# EAGLE library part MAX232 (library ArdDisp)
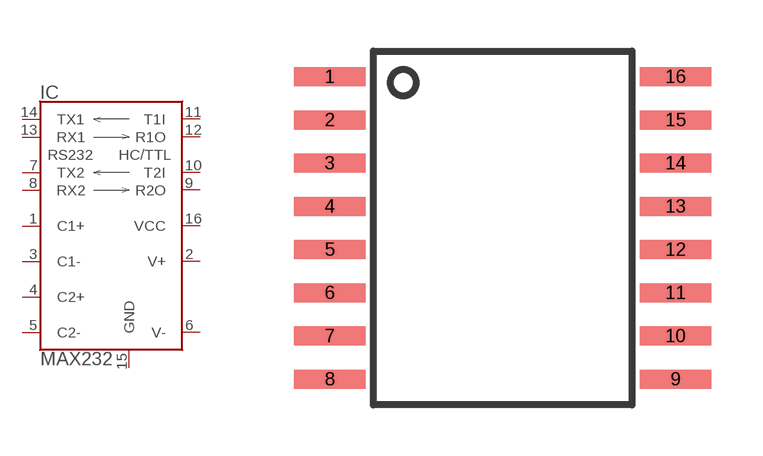
[diagram p5: symbol with the pads of SO16W; footprint SO16W]

Designator prefix IC

## MAX232-SO16W  [SO16W]
1  C1+  in
2  V+  in
3  C1-  in
4  C2+  in
5  C2-  in
6  V-  in
7  TX2  out
8  RX2  in
9  R2O  out
10  T2I  in
11  T1I  in
12  R1O  out
13  RX1  in
14  TX1  out
15  GND  in
16  VCC  in

## Footprint SO16W (pad centres in mm)
Pady jsou v mil/12.5
smd 2.108 x 0.559: 1 -5.08,4.445; 2 -5.08,3.175; 3 -5.08,1.905; 4 -5.08,0.635; 5 -5.08,-0.635; 6 -5.08,-1.905; 7 -5.08,-3.175; 8 -5.08,-4.445; 9 5.08,-4.445; 10 5.08,-3.175; 11 5.08,-1.905; 12 5.08,-0.635; 13 5.08,0.635; 14 5.08,1.905; 15 5.08,3.175; 16 5.08,4.445